# Altium schematic symbol library kmilo17pet-NSC_Amplifier.SchLib: 1665 symbols (part 42 of 44)
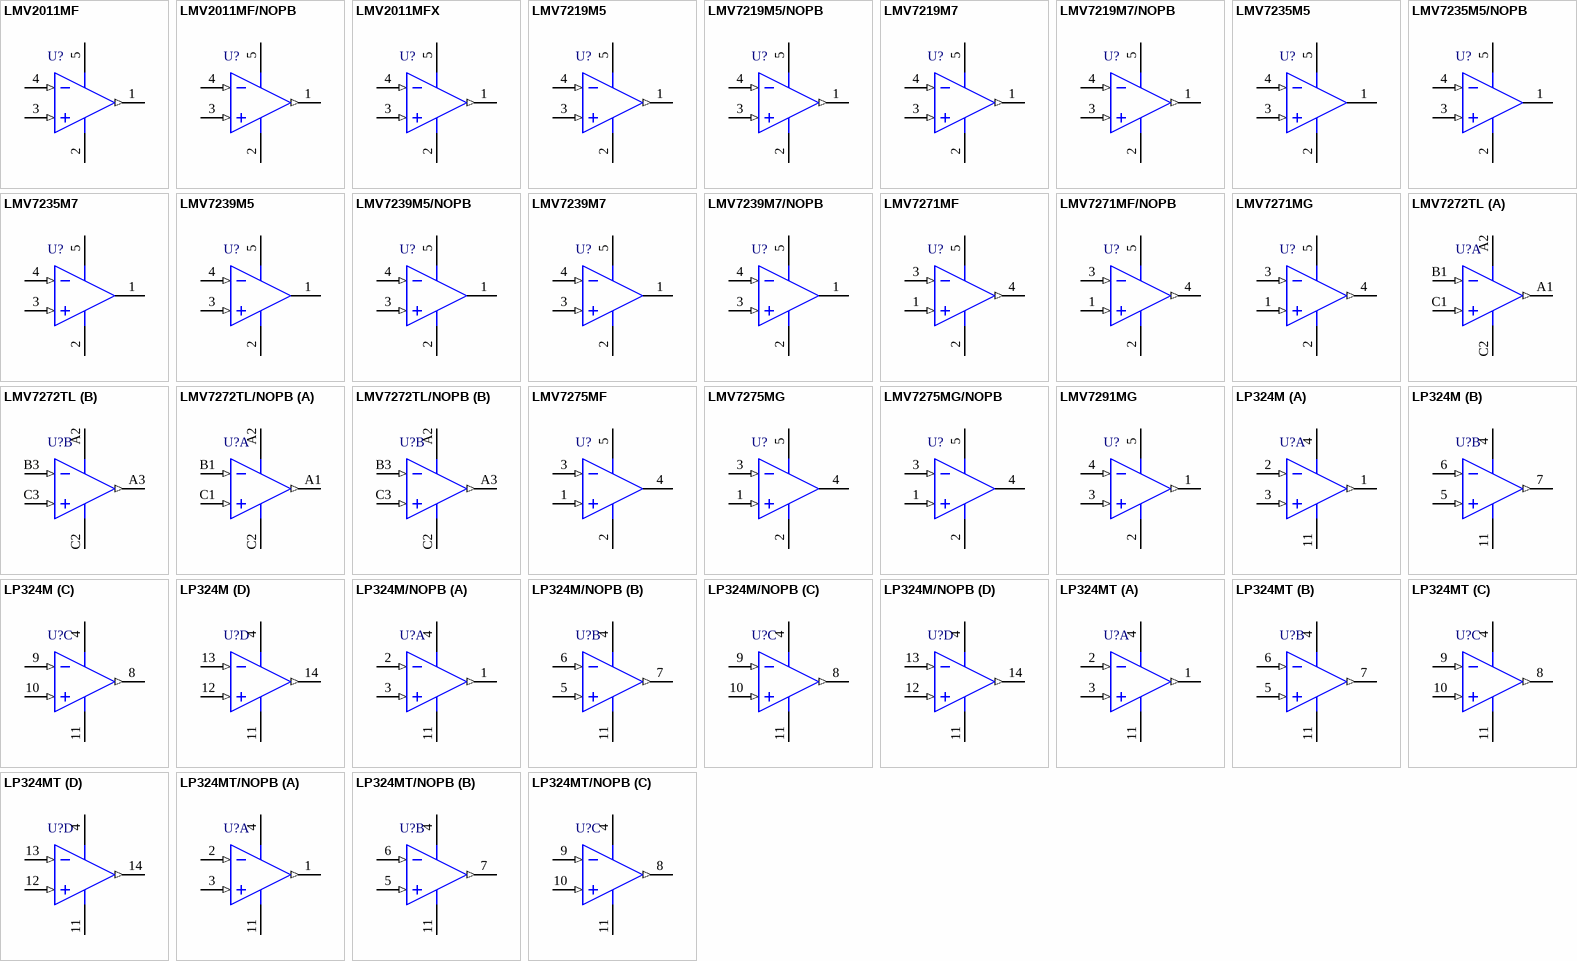
[diagram p125: symbols LMV2011MF to LP324MT/NOPB]

## LMV7272TL
designator U?
Dual 1.8V Low Power Comparators with Rail-to-Rail Input, 8-pin Micro SMD; PartNumber: LMV7272TL; Manufacturer: National Semiconductor; PackageTopMarking: XVC*I 01; PowerWise: Y; CompType: Amplifiers; DatasheetVersion: May-2008; PackageVersion: revC, Jan-2004; PackageReference: TLA08AAA; PackageDescription: Thin Micro SMD, 8 Bump (Large), 0.5mm Pitch; RoHS: N; PinCount: 8; High-Reliability: Y; ComponentLink1Description: Manufacturer URL; ComponentLink1URL: http://www.national.com/; ComponentLink2Description: LMV7272 Datasheet; ComponentLink2URL: http://www.national.com/ds/LM/LMV7272.pdf; ComponentLink3Description: LMV7272 Web Page; ComponentLink3URL: http://www.national.com/pf/LM/LMV7272.html; ComponentLink4Description: TLA08AAA Package Page; ComponentLink4URL: http://www.national.com/packaging/folders/tla08aaa.html
footprint TLA08AAA (Micro SMD, 8-Leads, Body 1.52x1.52mm, Pitch 0.5mm, NSC Recommended)
pins on every part: A2 V+ (power), C2 V- (power)
part A pins: A1 OUTA (out), B1 INA- (in), C1 INA+ (in)
part B pins: A3 OUTB (out), B3 INB- (in), C3 INB+ (in)

## LMV7272TL/NOPB
designator U?
Dual 1.8V Low Power Comparators with Rail-to-Rail Input, 8-pin Micro SMD, Pb-Free; PartNumber: LMV7272TL/NOPB; Manufacturer: National Semiconductor; PackageTopMarking: XVC*I 01; PowerWise: Y; CompType: Amplifiers; DatasheetVersion: May-2008; PackageVersion: revC, Jan-2004; PackageReference: TLA08AAA; PackageDescription: Thin Micro SMD, 8 Bump (Large), 0.5mm Pitch; RoHS: Y; PinCount: 8; High-Reliability: Y; ComponentLink1Description: Manufacturer URL; ComponentLink1URL: http://www.national.com/; ComponentLink2Description: LMV7272 Datasheet; ComponentLink2URL: http://www.national.com/ds/LM/LMV7272.pdf; ComponentLink3Description: LMV7272 Web Page; ComponentLink3URL: http://www.national.com/pf/LM/LMV7272.html; ComponentLink4Description: TLA08AAA Package Page; ComponentLink4URL: http://www.national.com/packaging/folders/tla08aaa.html
footprint TLA08AAA (Micro SMD, 8-Leads, Body 1.52x1.52mm, Pitch 0.5mm, NSC Recommended)
pins on every part: A2 V+ (power), C2 V- (power)
part A pins: A1 OUTA (out), B1 INA- (in), C1 INA+ (in)
part B pins: A3 OUTB (out), B3 INB- (in), C3 INB+ (in)

## LMV7275MF
designator U?
Single 1.8V Low Power Comparators with Rail-to-Rail Input, 5-pin SOT-23; PartNumber: LMV7275MF; Manufacturer: National Semiconductor; PackageTopMarking: C26A*XTT; PowerWise: Y; CompType: Amplifiers; DatasheetVersion: May-2008; PackageVersion: revD, Aug-2008; PackageReference: MF05A; PackageDescription: Molded SOT-23, .115 x .063 x .040 in Body, 5 Lead, .0375 in Pitch; RoHS: N; PinCount: 5; High-Reliability: Y; ComponentLink1Description: Manufacturer URL; ComponentLink1URL: http://www.national.com/; ComponentLink2Description: LMV7275 Datasheet; ComponentLink2URL: http://www.national.com/ds/LM/LMV7275.pdf; ComponentLink3Description: LMV7275 Web Page; ComponentLink3URL: http://www.national.com/pf/LM/LMV7275.html; ComponentLink4Description: MF05A Package Page; ComponentLink4URL: http://www.national.com/packaging/folders/mf05a.html
footprint MF05A_N (SOT23, 5-Leads, Body 2.9x1.6mm, Pitch 0.95mm, Lead Span 2.8mm, IPC Medium Density)
footprint MF05A_L (SOT23, 5-Leads, Body 2.9x1.6mm, Pitch 0.95mm, Lead Span 2.8mm, IPC High Density)
footprint MF05A_M (SOT23, 5-Leads, Body 2.9x1.6mm, Pitch 0.95mm, Lead Span 2.8mm, IPC Low Density)
pins: 1 IN+ (in), 2 GND (power), 3 IN- (in), 4 OUT (oc), 5 V+ (power)

## LMV7275MG
designator U?
Single 1.8V Low Power Comparators with Rail-to-Rail Input, 5-pin SC-70; PartNumber: LMV7275MG; Manufacturer: National Semiconductor; PackageTopMarking: C35*XTT; PowerWise: Y; CompType: Amplifiers; DatasheetVersion: May-2008; PackageVersion: revD, Jun-2007; PackageReference: MAA05A; PackageDescription: Molded SC-70, 2 x 1.25 x .9mm, 5 Lead, 0.65mm Pitch; RoHS: N; PinCount: 5; High-Reliability: Y; Code_JEITA: SC-88A; Code_JEDEC: MO-203-AA; Code_IPC: SOT353-5; ComponentLink1Description: Manufacturer URL; ComponentLink1URL: http://www.national.com/; ComponentLink2Description: LMV7275 Datasheet; ComponentLink2URL: http://www.national.com/ds/LM/LMV7275.pdf; ComponentLink3Description: LMV7275 Web Page; ComponentLink3URL: http://www.national.com/pf/LM/LMV7275.html; ComponentLink4Description: MAA05A Package Page; ComponentLink4URL: http://www.national.com/packaging/folders/maa05a.html
footprint MAA05A_N (SOT353, 5-Leads, Body 2x1.3mm, Pitch 0.65mm, Lead Span 2.1mm, IPC Medium Density)
footprint MAA05A_L (SOT353, 5-Leads, Body 2x1.3mm, Pitch 0.65mm, Lead Span 2.1mm, IPC High Density)
footprint MAA05A_M (SOT353, 5-Leads, Body 2x1.3mm, Pitch 0.65mm, Lead Span 2.1mm, IPC Low Density)
pins: 1 IN+ (in), 2 GND (power), 3 IN- (in), 4 OUT (oc), 5 V+ (power)

## LMV7275MG/NOPB
designator U?
Single 1.8V Low Power Comparators with Rail-to-Rail Input, 5-pin SC-70, Pb-Free; PartNumber: LMV7275MG/NOPB; Manufacturer: National Semiconductor; PackageTopMarking: C35*XTT; PowerWise: Y; CompType: Amplifiers; DatasheetVersion: May-2008; PackageVersion: revD, Jun-2007; PackageReference: MAA05A; PackageDescription: Molded SC-70, 2 x 1.25 x .9mm, 5 Lead, 0.65mm Pitch; RoHS: Y; PinCount: 5; High-Reliability: Y; Code_JEITA: SC-88A; Code_JEDEC: MO-203-AA; Code_IPC: SOT353-5; ComponentLink1Description: Manufacturer URL; ComponentLink1URL: http://www.national.com/; ComponentLink2Description: LMV7275 Datasheet; ComponentLink2URL: http://www.national.com/ds/LM/LMV7275.pdf; ComponentLink3Description: LMV7275 Web Page; ComponentLink3URL: http://www.national.com/pf/LM/LMV7275.html; ComponentLink4Description: MAA05A Package Page; ComponentLink4URL: http://www.national.com/packaging/folders/maa05a.html
footprint MAA05A_N (SOT353, 5-Leads, Body 2x1.3mm, Pitch 0.65mm, Lead Span 2.1mm, IPC Medium Density)
footprint MAA05A_L (SOT353, 5-Leads, Body 2x1.3mm, Pitch 0.65mm, Lead Span 2.1mm, IPC High Density)
footprint MAA05A_M (SOT353, 5-Leads, Body 2x1.3mm, Pitch 0.65mm, Lead Span 2.1mm, IPC Low Density)
pins: 1 IN+ (in), 2 GND (power), 3 IN- (in), 4 OUT (oc), 5 V+ (power)

## LMV7291MG
designator U?
Single 1.8V Power Comparator with Rail-to-Rail Input, 5-pin SC-70; PartNumber: LMV7291MG; Manufacturer: National Semiconductor; PackageTopMarking: C36*XTT; PowerWise: Y; CompType: Amplifiers; DatasheetVersion: Mar-2004; PackageVersion: revD, Jun-2007; PackageReference: MAA05A; PackageDescription: Molded SC-70, 2 x 1.25 x .9mm, 5 Lead, 0.65mm Pitch; RoHS: N; PinCount: 5; High-Reliability: Y; Code_JEITA: SC-88A; Code_JEDEC: MO-203-AA; Code_IPC: SOT353-5; ComponentLink1Description: Manufacturer URL; ComponentLink1URL: http://www.national.com/; ComponentLink2Description: LMV7291 Datasheet; ComponentLink2URL: http://www.national.com/ds/LM/LMV7291.pdf; ComponentLink3Description: LMV7291 Web Page; ComponentLink3URL: http://www.national.com/pf/LM/LMV7291.html; ComponentLink4Description: MAA05A Package Page; ComponentLink4URL: http://www.national.com/packaging/folders/maa05a.html
footprint MAA05A_N (SOT353, 5-Leads, Body 2x1.3mm, Pitch 0.65mm, Lead Span 2.1mm, IPC Medium Density)
footprint MAA05A_L (SOT353, 5-Leads, Body 2x1.3mm, Pitch 0.65mm, Lead Span 2.1mm, IPC High Density)
footprint MAA05A_M (SOT353, 5-Leads, Body 2x1.3mm, Pitch 0.65mm, Lead Span 2.1mm, IPC Low Density)
pins: 1 OUT (out), 2 GND (power), 3 IN+ (in), 4 IN- (in), 5 V+ (power)

## LP324M
designator U?
Micropower Quad Operational Amplifier, 14-pin Narrow SOIC; PartNumber: LP324M; Manufacturer: National Semiconductor; PackageTopMarking: NSUZXYTTE#*LP324M; PowerWise: N; CompType: Amplifiers; High-Reliability: Y; DatasheetVersion: Jul-2001; PackageVersion: revJ, Jan-1996; PackageReference: M14A; PackageDescription: Molded Package S.O., .150in Wide, 14 Lead; RoHS: N; PinCount: 14; Code_JEDEC: MS-012AB; Code_IPC: SOIC127P600-14; ComponentLink1Description: Manufacturer URL; ComponentLink1URL: http://www.national.com/; ComponentLink2Description: LP324 Datasheet; ComponentLink2URL: http://www.national.com/ds/LP/LP324.pdf; ComponentLink3Description: LP324 Web Page; ComponentLink3URL: http://www.national.com/pf/LP/LP324.html; ComponentLink4Description: M14A Package Page; ComponentLink4URL: http://www.national.com/packaging/folders/m14a.html
footprint M14A_N (SOIC, 14-Leads, Body 8.6x3.9mm, Pitch 1.27mm, IPC Medium Density)
footprint M14A_L (SOIC, 14-Leads, Body 8.6x3.9mm, Pitch 1.27mm, IPC High Density)
footprint M14A_M (SOIC, 14-Leads, Body 8.6x3.9mm, Pitch 1.27mm, IPC Low Density)
pins on every part: 4 V+ (power), 11 GND (power)
part A pins: 1 OUT1 (out), 2 IN1- (in), 3 IN1+ (in)
part B pins: 5 IN2+ (in), 6 IN2- (in), 7 OUT2 (out)
part C pins: 8 OUT3 (out), 9 IN3- (in), 10 IN3+ (in)
part D pins: 12 IN4+ (in), 13 IN4- (in), 14 OUT4 (out)

## LP324M/NOPB
designator U?
Micropower Quad Operational Amplifier, 14-pin Narrow SOIC, Pb-Free; PartNumber: LP324M/NOPB; Manufacturer: National Semiconductor; PackageTopMarking: NSUZXYTTE#*LP324M; PowerWise: N; CompType: Amplifiers; High-Reliability: Y; DatasheetVersion: Jul-2001; PackageVersion: revJ, Jan-1996; PackageReference: M14A; PackageDescription: Molded Package S.O., .150in Wide, 14 Lead; RoHS: Y; PinCount: 14; Code_JEDEC: MS-012AB; Code_IPC: SOIC127P600-14; ComponentLink1Description: Manufacturer URL; ComponentLink1URL: http://www.national.com/; ComponentLink2Description: LP324 Datasheet; ComponentLink2URL: http://www.national.com/ds/LP/LP324.pdf; ComponentLink3Description: LP324 Web Page; ComponentLink3URL: http://www.national.com/pf/LP/LP324.html; ComponentLink4Description: M14A Package Page; ComponentLink4URL: http://www.national.com/packaging/folders/m14a.html
footprint M14A_N (SOIC, 14-Leads, Body 8.6x3.9mm, Pitch 1.27mm, IPC Medium Density)
footprint M14A_L (SOIC, 14-Leads, Body 8.6x3.9mm, Pitch 1.27mm, IPC High Density)
footprint M14A_M (SOIC, 14-Leads, Body 8.6x3.9mm, Pitch 1.27mm, IPC Low Density)
pins on every part: 4 V+ (power), 11 GND (power)
part A pins: 1 OUT1 (out), 2 IN1- (in), 3 IN1+ (in)
part B pins: 5 IN2+ (in), 6 IN2- (in), 7 OUT2 (out)
part C pins: 8 OUT3 (out), 9 IN3- (in), 10 IN3+ (in)
part D pins: 12 IN4+ (in), 13 IN4- (in), 14 OUT4 (out)

## LP324MT
designator U?
Micropower Quad Operational Amplifier, 14-pin TSSOP; PartNumber: LP324MT; Manufacturer: National Semiconductor; PackageTopMarking: NSZXYTT*LP324*MT; PowerWise: N; CompType: Amplifiers; High-Reliability: Y; DatasheetVersion: Jul-2001; PackageVersion: revD, Jun-2003; PackageReference: MTC14; PackageDescription: Molded TSSOP, JEDEC, 5 x 4.4 x 0.9mm Body, 14 Lead, 0.65mm Pitch; RoHS: N; PinCount: 14; Code_JEDEC: MO-153-AB-1; ComponentLink1Description: Manufacturer URL; ComponentLink1URL: http://www.national.com/; ComponentLink2Description: LP324 Datasheet; ComponentLink2URL: http://www.national.com/ds/LP/LP324.pdf; ComponentLink3Description: LP324 Web Page; ComponentLink3URL: http://www.national.com/pf/LP/LP324.html; ComponentLink4Description: MTC14 Package Page; ComponentLink4URL: http://www.national.com/packaging/folders/mtc14.html
footprint MTC14_N (TSOP, 14-Leads, Body 5x4.4mm, Pitch 0.65mm, IPC Medium Density)
footprint MTC14_L (TSOP, 14-Leads, Body 5x4.4mm, Pitch 0.65mm, IPC High Density)
footprint MTC14_M (TSOP, 14-Leads, Body 5x4.4mm, Pitch 0.65mm, IPC Low Density)
pins on every part: 4 V+ (power), 11 GND (power)
part A pins: 1 OUT1 (out), 2 IN1- (in), 3 IN1+ (in)
part B pins: 5 IN2+ (in), 6 IN2- (in), 7 OUT2 (out)
part C pins: 8 OUT3 (out), 9 IN3- (in), 10 IN3+ (in)
part D pins: 12 IN4+ (in), 13 IN4- (in), 14 OUT4 (out)

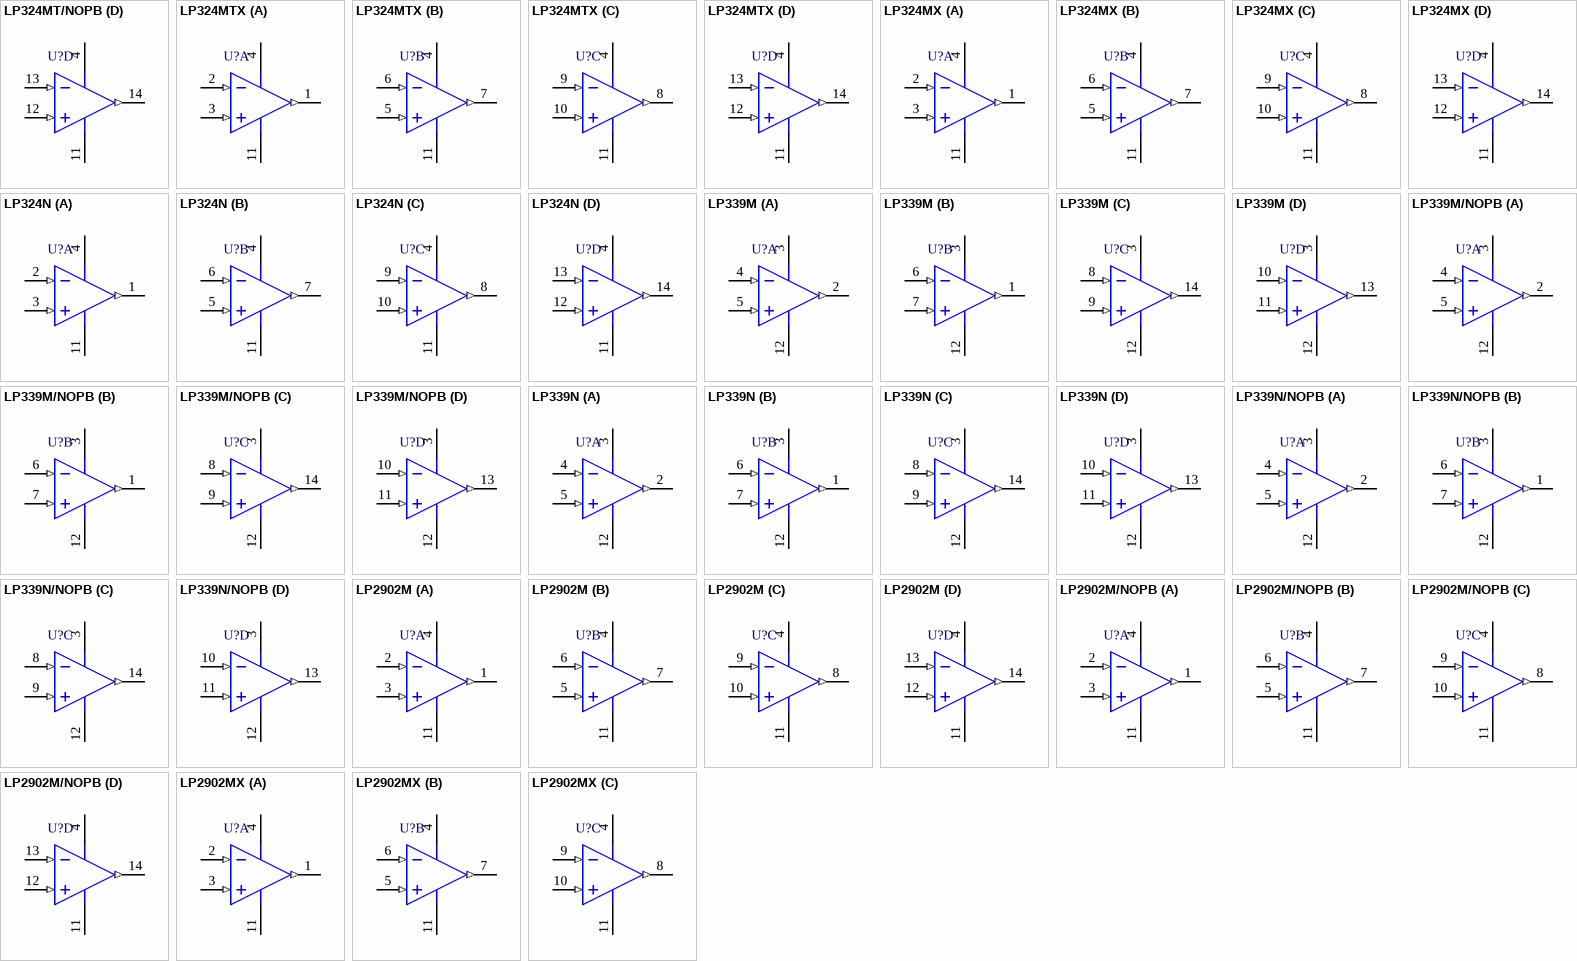
[diagram p80: symbols LP324MT/NOPB to LP2902MX]

## LP324MT/NOPB
designator U?
Micropower Quad Operational Amplifier, 14-pin TSSOP, Pb-Free; PartNumber: LP324MT/NOPB; Manufacturer: National Semiconductor; PackageTopMarking: NSZXYTT*LP324*MT; PowerWise: N; CompType: Amplifiers; High-Reliability: Y; DatasheetVersion: Jul-2001; PackageVersion: revD, Jun-2003; PackageReference: MTC14; PackageDescription: Molded TSSOP, JEDEC, 5 x 4.4 x 0.9mm Body, 14 Lead, 0.65mm Pitch; RoHS: Y; PinCount: 14; Code_JEDEC: MO-153-AB-1; ComponentLink1Description: Manufacturer URL; ComponentLink1URL: http://www.national.com/; ComponentLink2Description: LP324 Datasheet; ComponentLink2URL: http://www.national.com/ds/LP/LP324.pdf; ComponentLink3Description: LP324 Web Page; ComponentLink3URL: http://www.national.com/pf/LP/LP324.html; ComponentLink4Description: MTC14 Package Page; ComponentLink4URL: http://www.national.com/packaging/folders/mtc14.html
footprint MTC14_N (TSOP, 14-Leads, Body 5x4.4mm, Pitch 0.65mm, IPC Medium Density)
footprint MTC14_L (TSOP, 14-Leads, Body 5x4.4mm, Pitch 0.65mm, IPC High Density)
footprint MTC14_M (TSOP, 14-Leads, Body 5x4.4mm, Pitch 0.65mm, IPC Low Density)
pins on every part: 4 V+ (power), 11 GND (power)
part A pins: 1 OUT1 (out), 2 IN1- (in), 3 IN1+ (in)
part B pins: 5 IN2+ (in), 6 IN2- (in), 7 OUT2 (out)
part C pins: 8 OUT3 (out), 9 IN3- (in), 10 IN3+ (in)
part D pins: 12 IN4+ (in), 13 IN4- (in), 14 OUT4 (out)

## LP324MTX
designator U?
Micropower Quad Operational Amplifier, 14-pin TSSOP; PartNumber: LP324MTX; Manufacturer: National Semiconductor; PackageTopMarking: NSZXYTT*LP324*MT; PowerWise: N; CompType: Amplifiers; High-Reliability: Y; DatasheetVersion: Jul-2001; PackageVersion: revD, Jun-2003; PackageReference: MTC14; PackageDescription: Molded TSSOP, JEDEC, 5 x 4.4 x 0.9mm Body, 14 Lead, 0.65mm Pitch; RoHS: N; PinCount: 14; Code_JEDEC: MO-153-AB-1; ComponentLink1Description: Manufacturer URL; ComponentLink1URL: http://www.national.com/; ComponentLink2Description: LP324 Datasheet; ComponentLink2URL: http://www.national.com/ds/LP/LP324.pdf; ComponentLink3Description: LP324 Web Page; ComponentLink3URL: http://www.national.com/pf/LP/LP324.html; ComponentLink4Description: MTC14 Package Page; ComponentLink4URL: http://www.national.com/packaging/folders/mtc14.html
footprint MTC14_N (TSOP, 14-Leads, Body 5x4.4mm, Pitch 0.65mm, IPC Medium Density)
footprint MTC14_L (TSOP, 14-Leads, Body 5x4.4mm, Pitch 0.65mm, IPC High Density)
footprint MTC14_M (TSOP, 14-Leads, Body 5x4.4mm, Pitch 0.65mm, IPC Low Density)
pins on every part: 4 V+ (power), 11 GND (power)
part A pins: 1 OUT1 (out), 2 IN1- (in), 3 IN1+ (in)
part B pins: 5 IN2+ (in), 6 IN2- (in), 7 OUT2 (out)
part C pins: 8 OUT3 (out), 9 IN3- (in), 10 IN3+ (in)
part D pins: 12 IN4+ (in), 13 IN4- (in), 14 OUT4 (out)

## LP324MX
designator U?
Micropower Quad Operational Amplifier, 14-pin Narrow SOIC; PartNumber: LP324MX; Manufacturer: National Semiconductor; PackageTopMarking: NSUZXYTTE#*LP324M; PowerWise: N; CompType: Amplifiers; High-Reliability: Y; DatasheetVersion: Jul-2001; PackageVersion: revJ, Jan-1996; PackageReference: M14A; PackageDescription: Molded Package S.O., .150in Wide, 14 Lead; RoHS: N; PinCount: 14; Code_JEDEC: MS-012AB; Code_IPC: SOIC127P600-14; ComponentLink1Description: Manufacturer URL; ComponentLink1URL: http://www.national.com/; ComponentLink2Description: LP324 Datasheet; ComponentLink2URL: http://www.national.com/ds/LP/LP324.pdf; ComponentLink3Description: LP324 Web Page; ComponentLink3URL: http://www.national.com/pf/LP/LP324.html; ComponentLink4Description: M14A Package Page; ComponentLink4URL: http://www.national.com/packaging/folders/m14a.html
footprint M14A_N (SOIC, 14-Leads, Body 8.6x3.9mm, Pitch 1.27mm, IPC Medium Density)
footprint M14A_L (SOIC, 14-Leads, Body 8.6x3.9mm, Pitch 1.27mm, IPC High Density)
footprint M14A_M (SOIC, 14-Leads, Body 8.6x3.9mm, Pitch 1.27mm, IPC Low Density)
pins on every part: 4 V+ (power), 11 GND (power)
part A pins: 1 OUT1 (out), 2 IN1- (in), 3 IN1+ (in)
part B pins: 5 IN2+ (in), 6 IN2- (in), 7 OUT2 (out)
part C pins: 8 OUT3 (out), 9 IN3- (in), 10 IN3+ (in)
part D pins: 12 IN4+ (in), 13 IN4- (in), 14 OUT4 (out)

## LP324N
designator U?
Micropower Quad Operational Amplifier, 14-pin MDIP; PartNumber: LP324N; Manufacturer: National Semiconductor; PackageTopMarking: NSUZXYYTTE#*LP324N; PowerWise: N; CompType: Amplifiers; High-Reliability: Y; DatasheetVersion: Jul-2001; PackageVersion: revG, May-2006; PackageReference: N14A; PackageDescription: MDIP, .750 x .250 x.130in, 14 Lead, .100in Pitch; RoHS: N; PinCount: 14; Code_JEDEC: MS-001-AA; ComponentLink1Description: Manufacturer URL; ComponentLink1URL: http://www.national.com/; ComponentLink2Description: LP324 Datasheet; ComponentLink2URL: http://www.national.com/ds/LP/LP324.pdf; ComponentLink3Description: LP324 Web Page; ComponentLink3URL: http://www.national.com/pf/LP/LP324.html; ComponentLink4Description: N14A Package Page; ComponentLink4URL: http://www.national.com/packaging/folders/n14a.html
footprint N14A (DIP, 14-Leads, Row Spacing 7.62mm, Pitch 2.54mm, Body 19.56x6.35mm)
pins on every part: 4 V+ (power), 11 GND (power)
part A pins: 1 OUT1 (out), 2 IN1- (in), 3 IN1+ (in)
part B pins: 5 IN2+ (in), 6 IN2- (in), 7 OUT2 (out)
part C pins: 8 OUT3 (out), 9 IN3- (in), 10 IN3+ (in)
part D pins: 12 IN4+ (in), 13 IN4- (in), 14 OUT4 (out)

## LP339M
designator U?
Ultra-Low Power Quad Comparator, 14-pin Narrow SOIC; PartNumber: LP339M; Manufacturer: National Semiconductor; PackageTopMarking: NSUZXYTTE#*LP339M; PowerWise: N; CompType: Amplifiers; High-Reliability: Y; DatasheetVersion: Aug-2000; PackageVersion: revJ, Jan-1996; PackageReference: M14A; PackageDescription: Molded Package S.O., .150in Wide, 14 Lead; RoHS: N; PinCount: 14; Code_JEDEC: MS-012AB; Code_IPC: SOIC127P600-14; ComponentLink1Description: Manufacturer URL; ComponentLink1URL: http://www.national.com/; ComponentLink2Description: LP339 Datasheet; ComponentLink2URL: http://www.national.com/ds/LP/LP339.pdf; ComponentLink3Description: LP339 Web Page; ComponentLink3URL: http://www.national.com/pf/LP/LP339.html; ComponentLink4Description: M14A Package Page; ComponentLink4URL: http://www.national.com/packaging/folders/m14a.html
footprint M14A_N (SOIC, 14-Leads, Body 8.6x3.9mm, Pitch 1.27mm, IPC Medium Density)
footprint M14A_L (SOIC, 14-Leads, Body 8.6x3.9mm, Pitch 1.27mm, IPC High Density)
footprint M14A_M (SOIC, 14-Leads, Body 8.6x3.9mm, Pitch 1.27mm, IPC Low Density)
pins on every part: 3 V+ (power), 12 GND (power)
part A pins: 2 OUT1 (out), 4 IN1- (in), 5 IN1+ (in)
part B pins: 1 OUT2 (out), 6 IN2- (in), 7 IN2+ (in)
part C pins: 8 IN3- (in), 9 IN3+ (in), 14 OUT3 (out)
part D pins: 10 IN4- (in), 11 IN4+ (in), 13 OUT4 (out)

## LP339M/NOPB
designator U?
Ultra-Low Power Quad Comparator, 14-pin Narrow SOIC, Pb-Free; PartNumber: LP339M/NOPB; Manufacturer: National Semiconductor; PackageTopMarking: NSUZXYTTE#*LP339M; PowerWise: N; CompType: Amplifiers; High-Reliability: Y; DatasheetVersion: Aug-2000; PackageVersion: revJ, Jan-1996; PackageReference: M14A; PackageDescription: Molded Package S.O., .150in Wide, 14 Lead; RoHS: Y; PinCount: 14; Code_JEDEC: MS-012AB; Code_IPC: SOIC127P600-14; ComponentLink1Description: Manufacturer URL; ComponentLink1URL: http://www.national.com/; ComponentLink2Description: LP339 Datasheet; ComponentLink2URL: http://www.national.com/ds/LP/LP339.pdf; ComponentLink3Description: LP339 Web Page; ComponentLink3URL: http://www.national.com/pf/LP/LP339.html; ComponentLink4Description: M14A Package Page; ComponentLink4URL: http://www.national.com/packaging/folders/m14a.html
footprint M14A_N (SOIC, 14-Leads, Body 8.6x3.9mm, Pitch 1.27mm, IPC Medium Density)
footprint M14A_L (SOIC, 14-Leads, Body 8.6x3.9mm, Pitch 1.27mm, IPC High Density)
footprint M14A_M (SOIC, 14-Leads, Body 8.6x3.9mm, Pitch 1.27mm, IPC Low Density)
pins on every part: 3 V+ (power), 12 GND (power)
part A pins: 2 OUT1 (out), 4 IN1- (in), 5 IN1+ (in)
part B pins: 1 OUT2 (out), 6 IN2- (in), 7 IN2+ (in)
part C pins: 8 IN3- (in), 9 IN3+ (in), 14 OUT3 (out)
part D pins: 10 IN4- (in), 11 IN4+ (in), 13 OUT4 (out)

## LP339N
designator U?
Ultra-Low Power Quad Comparator, 14-pin MDIP; PartNumber: LP339N; Manufacturer: National Semiconductor; PackageTopMarking: NSUZXYYTTE#*LP339N; PowerWise: N; CompType: Amplifiers; High-Reliability: Y; DatasheetVersion: Aug-2000; PackageVersion: revG, May-2006; PackageReference: N14A; PackageDescription: MDIP, .750 x .250 x.130in, 14 Lead, .100in Pitch; RoHS: N; PinCount: 14; Code_JEDEC: MS-001-AA; ComponentLink1Description: Manufacturer URL; ComponentLink1URL: http://www.national.com/; ComponentLink2Description: LP339 Datasheet; ComponentLink2URL: http://www.national.com/ds/LP/LP339.pdf; ComponentLink3Description: LP339 Web Page; ComponentLink3URL: http://www.national.com/pf/LP/LP339.html; ComponentLink4Description: N14A Package Page; ComponentLink4URL: http://www.national.com/packaging/folders/n14a.html
footprint N14A (DIP, 14-Leads, Row Spacing 7.62mm, Pitch 2.54mm, Body 19.56x6.35mm)
pins on every part: 3 V+ (power), 12 GND (power)
part A pins: 2 OUT1 (out), 4 IN1- (in), 5 IN1+ (in)
part B pins: 1 OUT2 (out), 6 IN2- (in), 7 IN2+ (in)
part C pins: 8 IN3- (in), 9 IN3+ (in), 14 OUT3 (out)
part D pins: 10 IN4- (in), 11 IN4+ (in), 13 OUT4 (out)

## LP339N/NOPB
designator U?
Ultra-Low Power Quad Comparator, 14-pin MDIP, Pb-Free; PartNumber: LP339N/NOPB; Manufacturer: National Semiconductor; PackageTopMarking: NSUZXYYTTE#*LP339N; PowerWise: N; CompType: Amplifiers; High-Reliability: Y; DatasheetVersion: Aug-2000; PackageVersion: revG, May-2006; PackageReference: N14A; PackageDescription: MDIP, .750 x .250 x.130in, 14 Lead, .100in Pitch; RoHS: Y; PinCount: 14; Code_JEDEC: MS-001-AA; ComponentLink1Description: Manufacturer URL; ComponentLink1URL: http://www.national.com/; ComponentLink2Description: LP339 Datasheet; ComponentLink2URL: http://www.national.com/ds/LP/LP339.pdf; ComponentLink3Description: LP339 Web Page; ComponentLink3URL: http://www.national.com/pf/LP/LP339.html; ComponentLink4Description: N14A Package Page; ComponentLink4URL: http://www.national.com/packaging/folders/n14a.html
footprint N14A (DIP, 14-Leads, Row Spacing 7.62mm, Pitch 2.54mm, Body 19.56x6.35mm)
pins on every part: 3 V+ (power), 12 GND (power)
part A pins: 2 OUT1 (out), 4 IN1- (in), 5 IN1+ (in)
part B pins: 1 OUT2 (out), 6 IN2- (in), 7 IN2+ (in)
part C pins: 8 IN3- (in), 9 IN3+ (in), 14 OUT3 (out)
part D pins: 10 IN4- (in), 11 IN4+ (in), 13 OUT4 (out)

## LP2902M
designator U?
Micropower Quad Operational Amplifier, 14-pin Narrow SOIC; PartNumber: LP2902M; Manufacturer: National Semiconductor; PackageTopMarking: NSUZXYTTE#*LP2902M; PowerWise: N; CompType: Amplifiers; High-Reliability: Y; DatasheetVersion: Jul-2001; PackageVersion: revJ, Jan-1996; PackageReference: M14A; PackageDescription: Molded Package S.O., .150in Wide, 14 Lead; RoHS: N; PinCount: 14; Code_JEDEC: MS-012AB; Code_IPC: SOIC127P600-14; ComponentLink1Description: Manufacturer URL; ComponentLink1URL: http://www.national.com/; ComponentLink2Description: LP2902 Datasheet; ComponentLink2URL: http://www.national.com/ds/LP/LP2902.pdf; ComponentLink3Description: LP2902 Web Page; ComponentLink3URL: http://www.national.com/pf/LP/LP2902.html; ComponentLink4Description: M14A Package Page; ComponentLink4URL: http://www.national.com/packaging/folders/m14a.html
footprint M14A_N (SOIC, 14-Leads, Body 8.6x3.9mm, Pitch 1.27mm, IPC Medium Density)
footprint M14A_L (SOIC, 14-Leads, Body 8.6x3.9mm, Pitch 1.27mm, IPC High Density)
footprint M14A_M (SOIC, 14-Leads, Body 8.6x3.9mm, Pitch 1.27mm, IPC Low Density)
pins on every part: 4 V+ (power), 11 GND (power)
part A pins: 1 OUT1 (out), 2 IN1- (in), 3 IN1+ (in)
part B pins: 5 IN2+ (in), 6 IN2- (in), 7 OUT2 (out)
part C pins: 8 OUT3 (out), 9 IN3- (in), 10 IN3+ (in)
part D pins: 12 IN4+ (in), 13 IN4- (in), 14 OUT4 (out)

## LP2902M/NOPB
designator U?
Micropower Quad Operational Amplifier, 14-pin Narrow SOIC, Pb-Free; PartNumber: LP2902M/NOPB; Manufacturer: National Semiconductor; PackageTopMarking: NSUZXYTTE#*LP2902M; PowerWise: N; CompType: Amplifiers; High-Reliability: Y; DatasheetVersion: Jul-2001; PackageVersion: revJ, Jan-1996; PackageReference: M14A; PackageDescription: Molded Package S.O., .150in Wide, 14 Lead; RoHS: Y; PinCount: 14; Code_JEDEC: MS-012AB; Code_IPC: SOIC127P600-14; ComponentLink1Description: Manufacturer URL; ComponentLink1URL: http://www.national.com/; ComponentLink2Description: LP2902 Datasheet; ComponentLink2URL: http://www.national.com/ds/LP/LP2902.pdf; ComponentLink3Description: LP2902 Web Page; ComponentLink3URL: http://www.national.com/pf/LP/LP2902.html; ComponentLink4Description: M14A Package Page; ComponentLink4URL: http://www.national.com/packaging/folders/m14a.html
footprint M14A_N (SOIC, 14-Leads, Body 8.6x3.9mm, Pitch 1.27mm, IPC Medium Density)
footprint M14A_L (SOIC, 14-Leads, Body 8.6x3.9mm, Pitch 1.27mm, IPC High Density)
footprint M14A_M (SOIC, 14-Leads, Body 8.6x3.9mm, Pitch 1.27mm, IPC Low Density)
pins on every part: 4 V+ (power), 11 GND (power)
part A pins: 1 OUT1 (out), 2 IN1- (in), 3 IN1+ (in)
part B pins: 5 IN2+ (in), 6 IN2- (in), 7 OUT2 (out)
part C pins: 8 OUT3 (out), 9 IN3- (in), 10 IN3+ (in)
part D pins: 12 IN4+ (in), 13 IN4- (in), 14 OUT4 (out)

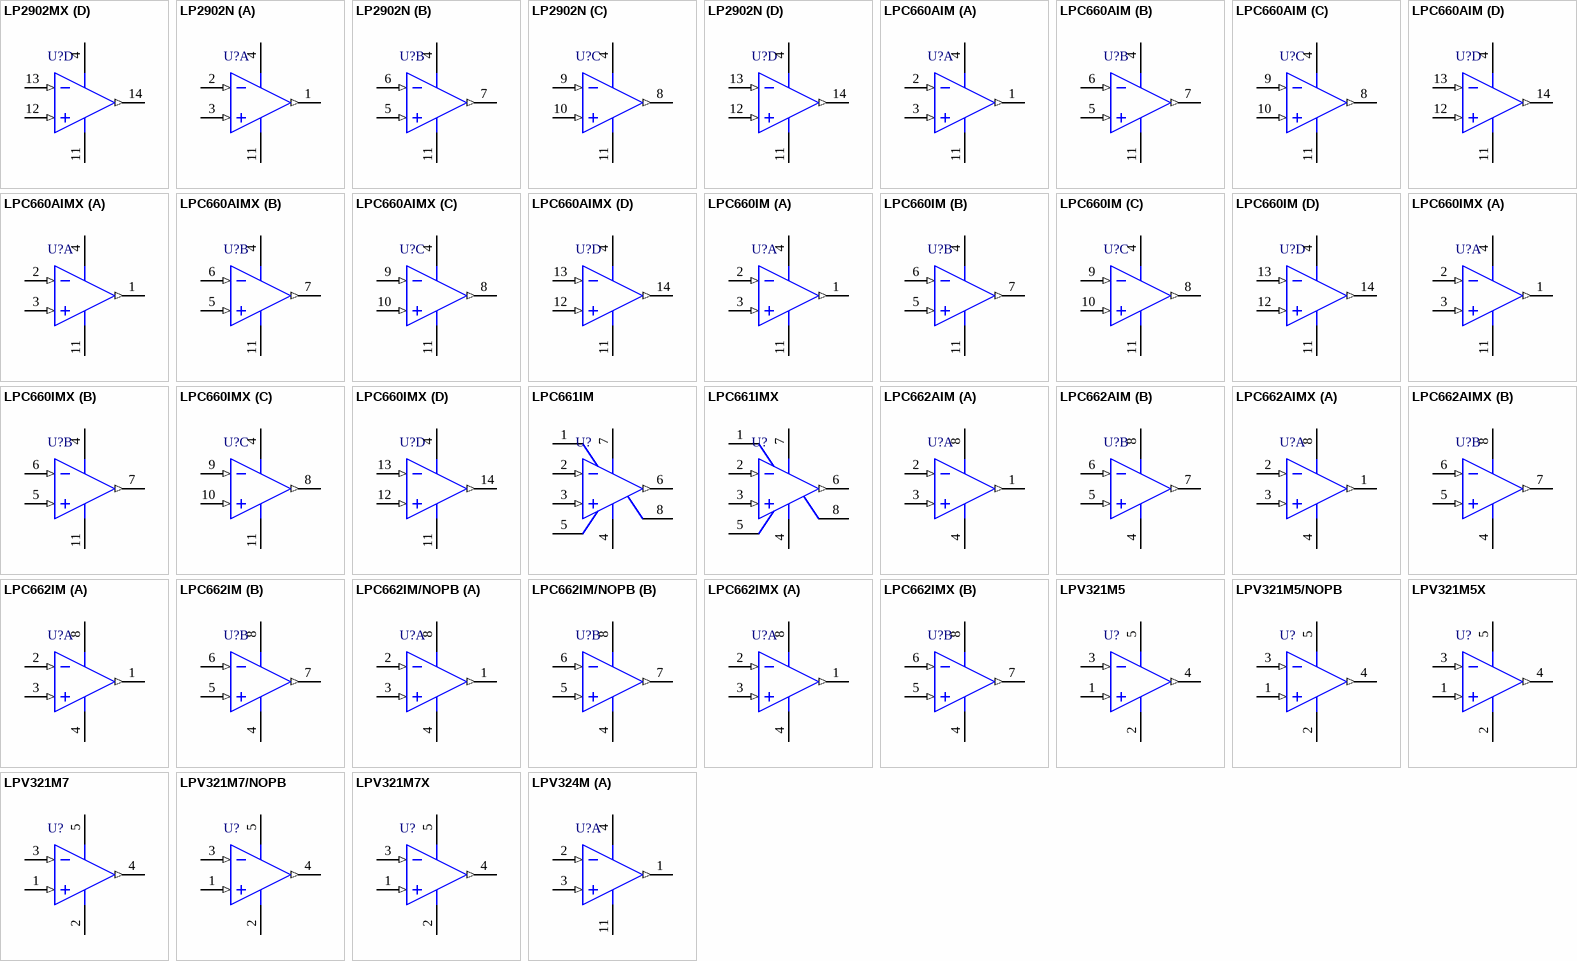
[diagram p81: symbols LP2902MX to LPV324M]

## LP2902MX
designator U?
Micropower Quad Operational Amplifier, 14-pin Narrow SOIC; PartNumber: LP2902MX; Manufacturer: National Semiconductor; PackageTopMarking: NSUZXYTTE#*LP2902M; PowerWise: N; CompType: Amplifiers; High-Reliability: Y; DatasheetVersion: Jul-2001; PackageVersion: revJ, Jan-1996; PackageReference: M14A; PackageDescription: Molded Package S.O., .150in Wide, 14 Lead; RoHS: N; PinCount: 14; Code_JEDEC: MS-012AB; Code_IPC: SOIC127P600-14; ComponentLink1Description: Manufacturer URL; ComponentLink1URL: http://www.national.com/; ComponentLink2Description: LP2902 Datasheet; ComponentLink2URL: http://www.national.com/ds/LP/LP2902.pdf; ComponentLink3Description: LP2902 Web Page; ComponentLink3URL: http://www.national.com/pf/LP/LP2902.html; ComponentLink4Description: M14A Package Page; ComponentLink4URL: http://www.national.com/packaging/folders/m14a.html
footprint M14A_N (SOIC, 14-Leads, Body 8.6x3.9mm, Pitch 1.27mm, IPC Medium Density)
footprint M14A_L (SOIC, 14-Leads, Body 8.6x3.9mm, Pitch 1.27mm, IPC High Density)
footprint M14A_M (SOIC, 14-Leads, Body 8.6x3.9mm, Pitch 1.27mm, IPC Low Density)
pins on every part: 4 V+ (power), 11 GND (power)
part A pins: 1 OUT1 (out), 2 IN1- (in), 3 IN1+ (in)
part B pins: 5 IN2+ (in), 6 IN2- (in), 7 OUT2 (out)
part C pins: 8 OUT3 (out), 9 IN3- (in), 10 IN3+ (in)
part D pins: 12 IN4+ (in), 13 IN4- (in), 14 OUT4 (out)

## LP2902N
designator U?
Micropower Quad Operational Amplifier, 14-pin MDIP; PartNumber: LP2902N; Manufacturer: National Semiconductor; PackageTopMarking: NSUZXYYTTE#*LP2902N; PowerWise: N; CompType: Amplifiers; High-Reliability: Y; DatasheetVersion: Jul-2001; PackageVersion: revG, May-2006; PackageReference: N14A; PackageDescription: MDIP, .750 x .250 x.130in, 14 Lead, .100in Pitch; RoHS: N; PinCount: 14; Code_JEDEC: MS-001-AA; ComponentLink1Description: Manufacturer URL; ComponentLink1URL: http://www.national.com/; ComponentLink2Description: LP2902 Datasheet; ComponentLink2URL: http://www.national.com/ds/LP/LP2902.pdf; ComponentLink3Description: LP2902 Web Page; ComponentLink3URL: http://www.national.com/pf/LP/LP2902.html; ComponentLink4Description: N14A Package Page; ComponentLink4URL: http://www.national.com/packaging/folders/n14a.html
footprint N14A (DIP, 14-Leads, Row Spacing 7.62mm, Pitch 2.54mm, Body 19.56x6.35mm)
pins on every part: 4 V+ (power), 11 GND (power)
part A pins: 1 OUT1 (out), 2 IN1- (in), 3 IN1+ (in)
part B pins: 5 IN2+ (in), 6 IN2- (in), 7 OUT2 (out)
part C pins: 8 OUT3 (out), 9 IN3- (in), 10 IN3+ (in)
part D pins: 12 IN4+ (in), 13 IN4- (in), 14 OUT4 (out)

## LPC660AIM
designator U?
Low Power CMOS Quad Operational Amplifier, 14-pin Narrow SOIC; PartNumber: LPC660AIM; Manufacturer: National Semiconductor; PackageTopMarking: NSUZXYTTE#*LPC660AIM; PowerWise: N; CompType: Amplifiers; High-Reliability: Y; DatasheetVersion: Nov-2004; PackageVersion: revJ, Jan-1996; PackageReference: M14A; PackageDescription: Molded Package S.O., .150in Wide, 14 Lead; RoHS: N; PinCount: 14; Code_JEDEC: MS-012AB; Code_IPC: SOIC127P600-14; ComponentLink1Description: Manufacturer URL; ComponentLink1URL: http://www.national.com/; ComponentLink2Description: LPC660 Datasheet; ComponentLink2URL: http://www.national.com/ds/LP/LPC660.pdf; ComponentLink3Description: LPC660 Web Page; ComponentLink3URL: http://www.national.com/pf/LP/LPC660.html; ComponentLink4Description: M14A Package Page; ComponentLink4URL: http://www.national.com/packaging/folders/m14a.html
footprint M14A_N (SOIC, 14-Leads, Body 8.6x3.9mm, Pitch 1.27mm, IPC Medium Density)
footprint M14A_L (SOIC, 14-Leads, Body 8.6x3.9mm, Pitch 1.27mm, IPC High Density)
footprint M14A_M (SOIC, 14-Leads, Body 8.6x3.9mm, Pitch 1.27mm, IPC Low Density)
pins on every part: 4 V+ (power), 11 V- (power)
part A pins: 1 OUT1 (out), 2 IN1- (in), 3 IN1+ (in)
part B pins: 5 IN2+ (in), 6 IN2- (in), 7 OUT2 (out)
part C pins: 8 OUT3 (out), 9 IN3- (in), 10 IN3+ (in)
part D pins: 12 IN4+ (in), 13 IN4- (in), 14 OUT4 (out)

## LPC660AIMX
designator U?
Low Power CMOS Quad Operational Amplifier, 14-pin Narrow SOIC; PartNumber: LPC660AIMX; Manufacturer: National Semiconductor; PackageTopMarking: NSUZXYTTE#*LPC660AIM; PowerWise: N; CompType: Amplifiers; High-Reliability: Y; DatasheetVersion: Nov-2004; PackageVersion: revJ, Jan-1996; PackageReference: M14A; PackageDescription: Molded Package S.O., .150in Wide, 14 Lead; RoHS: N; PinCount: 14; Code_JEDEC: MS-012AB; Code_IPC: SOIC127P600-14; ComponentLink1Description: Manufacturer URL; ComponentLink1URL: http://www.national.com/; ComponentLink2Description: LPC660 Datasheet; ComponentLink2URL: http://www.national.com/ds/LP/LPC660.pdf; ComponentLink3Description: LPC660 Web Page; ComponentLink3URL: http://www.national.com/pf/LP/LPC660.html; ComponentLink4Description: M14A Package Page; ComponentLink4URL: http://www.national.com/packaging/folders/m14a.html
footprint M14A_N (SOIC, 14-Leads, Body 8.6x3.9mm, Pitch 1.27mm, IPC Medium Density)
footprint M14A_L (SOIC, 14-Leads, Body 8.6x3.9mm, Pitch 1.27mm, IPC High Density)
footprint M14A_M (SOIC, 14-Leads, Body 8.6x3.9mm, Pitch 1.27mm, IPC Low Density)
pins on every part: 4 V+ (power), 11 V- (power)
part A pins: 1 OUT1 (out), 2 IN1- (in), 3 IN1+ (in)
part B pins: 5 IN2+ (in), 6 IN2- (in), 7 OUT2 (out)
part C pins: 8 OUT3 (out), 9 IN3- (in), 10 IN3+ (in)
part D pins: 12 IN4+ (in), 13 IN4- (in), 14 OUT4 (out)

## LPC660IM
designator U?
Low Power CMOS Quad Operational Amplifier, 14-pin Narrow SOIC; PartNumber: LPC660IM; Manufacturer: National Semiconductor; PackageTopMarking: NSUZXYTTE#*LPC660IM; PowerWise: N; CompType: Amplifiers; High-Reliability: Y; DatasheetVersion: Nov-2004; PackageVersion: revJ, Jan-1996; PackageReference: M14A; PackageDescription: Molded Package S.O., .150in Wide, 14 Lead; RoHS: N; PinCount: 14; Code_JEDEC: MS-012AB; Code_IPC: SOIC127P600-14; ComponentLink1Description: Manufacturer URL; ComponentLink1URL: http://www.national.com/; ComponentLink2Description: LPC660 Datasheet; ComponentLink2URL: http://www.national.com/ds/LP/LPC660.pdf; ComponentLink3Description: LPC660 Web Page; ComponentLink3URL: http://www.national.com/pf/LP/LPC660.html; ComponentLink4Description: M14A Package Page; ComponentLink4URL: http://www.national.com/packaging/folders/m14a.html
footprint M14A_N (SOIC, 14-Leads, Body 8.6x3.9mm, Pitch 1.27mm, IPC Medium Density)
footprint M14A_L (SOIC, 14-Leads, Body 8.6x3.9mm, Pitch 1.27mm, IPC High Density)
footprint M14A_M (SOIC, 14-Leads, Body 8.6x3.9mm, Pitch 1.27mm, IPC Low Density)
pins on every part: 4 V+ (power), 11 V- (power)
part A pins: 1 OUT1 (out), 2 IN1- (in), 3 IN1+ (in)
part B pins: 5 IN2+ (in), 6 IN2- (in), 7 OUT2 (out)
part C pins: 8 OUT3 (out), 9 IN3- (in), 10 IN3+ (in)
part D pins: 12 IN4+ (in), 13 IN4- (in), 14 OUT4 (out)

## LPC660IMX
designator U?
Low Power CMOS Quad Operational Amplifier, 14-pin Narrow SOIC; PartNumber: LPC660IMX; Manufacturer: National Semiconductor; PackageTopMarking: NSUZXYTTE#*LPC660IM; PowerWise: N; CompType: Amplifiers; High-Reliability: Y; DatasheetVersion: Nov-2004; PackageVersion: revJ, Jan-1996; PackageReference: M14A; PackageDescription: Molded Package S.O., .150in Wide, 14 Lead; RoHS: N; PinCount: 14; Code_JEDEC: MS-012AB; Code_IPC: SOIC127P600-14; ComponentLink1Description: Manufacturer URL; ComponentLink1URL: http://www.national.com/; ComponentLink2Description: LPC660 Datasheet; ComponentLink2URL: http://www.national.com/ds/LP/LPC660.pdf; ComponentLink3Description: LPC660 Web Page; ComponentLink3URL: http://www.national.com/pf/LP/LPC660.html; ComponentLink4Description: M14A Package Page; ComponentLink4URL: http://www.national.com/packaging/folders/m14a.html
footprint M14A_N (SOIC, 14-Leads, Body 8.6x3.9mm, Pitch 1.27mm, IPC Medium Density)
footprint M14A_L (SOIC, 14-Leads, Body 8.6x3.9mm, Pitch 1.27mm, IPC High Density)
footprint M14A_M (SOIC, 14-Leads, Body 8.6x3.9mm, Pitch 1.27mm, IPC Low Density)
pins on every part: 4 V+ (power), 11 V- (power)
part A pins: 1 OUT1 (out), 2 IN1- (in), 3 IN1+ (in)
part B pins: 5 IN2+ (in), 6 IN2- (in), 7 OUT2 (out)
part C pins: 8 OUT3 (out), 9 IN3- (in), 10 IN3+ (in)
part D pins: 12 IN4+ (in), 13 IN4- (in), 14 OUT4 (out)

## LPC661IM
designator U?
Low Power CMOS Operational Amplifier, 8-pin Narrow SOIC; PartNumber: LPC661IM; Manufacturer: National Semiconductor; PackageTopMarking: NSZXTT*LPC66*1IM; PowerWise: N; CompType: Amplifiers; High-Reliability: Y; DatasheetVersion: Aug-2000; PackageVersion: revM, May-2009; PackageReference: M08A; PackageDescription: SOIC Narrow, 4.9 x 3.9 x 1.45mm, 8 Lead, 1.27mm Pitch; RoHS: N; PinCount: 8; Code_JEDEC: MS-012-AA; Code_IPC: SOIC127P600-8; ComponentLink1Description: Manufacturer URL; ComponentLink1URL: http://www.national.com/; ComponentLink2Description: LPC661 Datasheet; ComponentLink2URL: http://www.national.com/ds/LP/LPC661.pdf; ComponentLink3Description: LPC661 Web Page; ComponentLink3URL: http://www.national.com/pf/LP/LPC661.html; ComponentLink4Description: M08A Package Page; ComponentLink4URL: http://www.national.com/packaging/folders/m08a.html
footprint M08A_N (SOIC, 8-Leads, Body 4.9x3.9mm, Pitch 1.27mm, IPC Medium Density)
footprint M08A_L (SOIC, 8-Leads, Body 4.9x3.9mm, Pitch 1.27mm, IPC High Density)
footprint M08A_M (SOIC, 8-Leads, Body 4.9x3.9mm, Pitch 1.27mm, IPC Low Density)
pins: 1 NC, 2 IN- (in), 3 IN+ (in), 4 V- (power), 5 NC, 6 OUT (out), 7 V+ (power), 8 NC

## LPC661IMX
designator U?
Low Power CMOS Operational Amplifier, 8-pin Narrow SOIC; PartNumber: LPC661IMX; Manufacturer: National Semiconductor; PackageTopMarking: NSZXTT*LPC66*1IM; PowerWise: N; CompType: Amplifiers; High-Reliability: Y; DatasheetVersion: Aug-2000; PackageVersion: revM, May-2009; PackageReference: M08A; PackageDescription: SOIC Narrow, 4.9 x 3.9 x 1.45mm, 8 Lead, 1.27mm Pitch; RoHS: N; PinCount: 8; Code_JEDEC: MS-012-AA; Code_IPC: SOIC127P600-8; ComponentLink1Description: Manufacturer URL; ComponentLink1URL: http://www.national.com/; ComponentLink2Description: LPC661 Datasheet; ComponentLink2URL: http://www.national.com/ds/LP/LPC661.pdf; ComponentLink3Description: LPC661 Web Page; ComponentLink3URL: http://www.national.com/pf/LP/LPC661.html; ComponentLink4Description: M08A Package Page; ComponentLink4URL: http://www.national.com/packaging/folders/m08a.html
footprint M08A_N (SOIC, 8-Leads, Body 4.9x3.9mm, Pitch 1.27mm, IPC Medium Density)
footprint M08A_L (SOIC, 8-Leads, Body 4.9x3.9mm, Pitch 1.27mm, IPC High Density)
footprint M08A_M (SOIC, 8-Leads, Body 4.9x3.9mm, Pitch 1.27mm, IPC Low Density)
pins: 1 NC, 2 IN- (in), 3 IN+ (in), 4 V- (power), 5 NC, 6 OUT (out), 7 V+ (power), 8 NC

## LPC662AIM
designator U?
Low Power CMOS Dual Operational Amplifier, 8-pin Narrow SOIC; PartNumber: LPC662AIM; Manufacturer: National Semiconductor; PackageTopMarking: NSZXTT*LPC66*2AIM; PowerWise: N; CompType: Amplifiers; High-Reliability: Y; DatasheetVersion: Aug-2000; PackageVersion: revM, May-2009; PackageReference: M08A; PackageDescription: SOIC Narrow, 4.9 x 3.9 x 1.45mm, 8 Lead, 1.27mm Pitch; RoHS: N; PinCount: 8; Code_JEDEC: MS-012-AA; Code_IPC: SOIC127P600-8; ComponentLink1Description: Manufacturer URL; ComponentLink1URL: http://www.national.com/; ComponentLink2Description: LPC662 Datasheet; ComponentLink2URL: http://www.national.com/ds/LP/LPC662.pdf; ComponentLink3Description: LPC662 Web Page; ComponentLink3URL: http://www.national.com/pf/LP/LPC662.html; ComponentLink4Description: M08A Package Page; ComponentLink4URL: http://www.national.com/packaging/folders/m08a.html
footprint M08A_N (SOIC, 8-Leads, Body 4.9x3.9mm, Pitch 1.27mm, IPC Medium Density)
footprint M08A_L (SOIC, 8-Leads, Body 4.9x3.9mm, Pitch 1.27mm, IPC High Density)
footprint M08A_M (SOIC, 8-Leads, Body 4.9x3.9mm, Pitch 1.27mm, IPC Low Density)
pins on every part: 4 V- (power), 8 V+ (power)
part A pins: 1 OUTA (out), 2 INA- (in), 3 INA+ (in)
part B pins: 5 INB+ (in), 6 INB- (in), 7 OUTB (out)

## LPC662AIMX
designator U?
Low Power CMOS Dual Operational Amplifier, 8-pin Narrow SOIC; PartNumber: LPC662AIMX; Manufacturer: National Semiconductor; PackageTopMarking: NSZXTT*LPC66*2AIM; PowerWise: N; CompType: Amplifiers; High-Reliability: Y; DatasheetVersion: Aug-2000; PackageVersion: revM, May-2009; PackageReference: M08A; PackageDescription: SOIC Narrow, 4.9 x 3.9 x 1.45mm, 8 Lead, 1.27mm Pitch; RoHS: N; PinCount: 8; Code_JEDEC: MS-012-AA; Code_IPC: SOIC127P600-8; ComponentLink1Description: Manufacturer URL; ComponentLink1URL: http://www.national.com/; ComponentLink2Description: LPC662 Datasheet; ComponentLink2URL: http://www.national.com/ds/LP/LPC662.pdf; ComponentLink3Description: LPC662 Web Page; ComponentLink3URL: http://www.national.com/pf/LP/LPC662.html; ComponentLink4Description: M08A Package Page; ComponentLink4URL: http://www.national.com/packaging/folders/m08a.html
footprint M08A_N (SOIC, 8-Leads, Body 4.9x3.9mm, Pitch 1.27mm, IPC Medium Density)
footprint M08A_L (SOIC, 8-Leads, Body 4.9x3.9mm, Pitch 1.27mm, IPC High Density)
footprint M08A_M (SOIC, 8-Leads, Body 4.9x3.9mm, Pitch 1.27mm, IPC Low Density)
pins on every part: 4 V- (power), 8 V+ (power)
part A pins: 1 OUTA (out), 2 INA- (in), 3 INA+ (in)
part B pins: 5 INB+ (in), 6 INB- (in), 7 OUTB (out)

## LPC662IM
designator U?
Low Power CMOS Dual Operational Amplifier, 8-pin Narrow SOIC; PartNumber: LPC662IM; Manufacturer: National Semiconductor; PackageTopMarking: NSZXTT*LPC66*2IM; PowerWise: N; CompType: Amplifiers; High-Reliability: Y; DatasheetVersion: Aug-2000; PackageVersion: revM, May-2009; PackageReference: M08A; PackageDescription: SOIC Narrow, 4.9 x 3.9 x 1.45mm, 8 Lead, 1.27mm Pitch; RoHS: Y; PinCount: 8; Code_JEDEC: MS-012-AA; Code_IPC: SOIC127P600-8; ComponentLink1Description: Manufacturer URL; ComponentLink1URL: http://www.national.com/; ComponentLink2Description: LPC662 Datasheet; ComponentLink2URL: http://www.national.com/ds/LP/LPC662.pdf; ComponentLink3Description: LPC662 Web Page; ComponentLink3URL: http://www.national.com/pf/LP/LPC662.html; ComponentLink4Description: M08A Package Page; ComponentLink4URL: http://www.national.com/packaging/folders/m08a.html
footprint M08A_N (SOIC, 8-Leads, Body 4.9x3.9mm, Pitch 1.27mm, IPC Medium Density)
footprint M08A_L (SOIC, 8-Leads, Body 4.9x3.9mm, Pitch 1.27mm, IPC High Density)
footprint M08A_M (SOIC, 8-Leads, Body 4.9x3.9mm, Pitch 1.27mm, IPC Low Density)
pins on every part: 4 V- (power), 8 V+ (power)
part A pins: 1 OUTA (out), 2 INA- (in), 3 INA+ (in)
part B pins: 5 INB+ (in), 6 INB- (in), 7 OUTB (out)

## LPC662IM/NOPB
designator U?
Low Power CMOS Dual Operational Amplifier, 8-pin Narrow SOIC, Pb-Free; PartNumber: LPC662IM/NOPB; Manufacturer: National Semiconductor; PackageTopMarking: NSZXTT*LPC66*2IM; PowerWise: N; CompType: Amplifiers; High-Reliability: Y; DatasheetVersion: Aug-2000; PackageVersion: revM, May-2009; PackageReference: M08A; PackageDescription: SOIC Narrow, 4.9 x 3.9 x 1.45mm, 8 Lead, 1.27mm Pitch; RoHS: Y; PinCount: 8; Code_JEDEC: MS-012-AA; Code_IPC: SOIC127P600-8; ComponentLink1Description: Manufacturer URL; ComponentLink1URL: http://www.national.com/; ComponentLink2Description: LPC662 Datasheet; ComponentLink2URL: http://www.national.com/ds/LP/LPC662.pdf; ComponentLink3Description: LPC662 Web Page; ComponentLink3URL: http://www.national.com/pf/LP/LPC662.html; ComponentLink4Description: M08A Package Page; ComponentLink4URL: http://www.national.com/packaging/folders/m08a.html
footprint M08A_N (SOIC, 8-Leads, Body 4.9x3.9mm, Pitch 1.27mm, IPC Medium Density)
footprint M08A_L (SOIC, 8-Leads, Body 4.9x3.9mm, Pitch 1.27mm, IPC High Density)
footprint M08A_M (SOIC, 8-Leads, Body 4.9x3.9mm, Pitch 1.27mm, IPC Low Density)
pins on every part: 4 V- (power), 8 V+ (power)
part A pins: 1 OUTA (out), 2 INA- (in), 3 INA+ (in)
part B pins: 5 INB+ (in), 6 INB- (in), 7 OUTB (out)

## LPC662IMX
designator U?
Low Power CMOS Dual Operational Amplifier, 8-pin Narrow SOIC; PartNumber: LPC662IMX; Manufacturer: National Semiconductor; PackageTopMarking: NSZXTT*LPC66*2IM; PowerWise: N; CompType: Amplifiers; High-Reliability: Y; DatasheetVersion: Aug-2000; PackageVersion: revM, May-2009; PackageReference: M08A; PackageDescription: SOIC Narrow, 4.9 x 3.9 x 1.45mm, 8 Lead, 1.27mm Pitch; RoHS: N; PinCount: 8; Code_JEDEC: MS-012-AA; Code_IPC: SOIC127P600-8; ComponentLink1Description: Manufacturer URL; ComponentLink1URL: http://www.national.com/; ComponentLink2Description: LPC662 Datasheet; ComponentLink2URL: http://www.national.com/ds/LP/LPC662.pdf; ComponentLink3Description: LPC662 Web Page; ComponentLink3URL: http://www.national.com/pf/LP/LPC662.html; ComponentLink4Description: M08A Package Page; ComponentLink4URL: http://www.national.com/packaging/folders/m08a.html
footprint M08A_N (SOIC, 8-Leads, Body 4.9x3.9mm, Pitch 1.27mm, IPC Medium Density)
footprint M08A_L (SOIC, 8-Leads, Body 4.9x3.9mm, Pitch 1.27mm, IPC High Density)
footprint M08A_M (SOIC, 8-Leads, Body 4.9x3.9mm, Pitch 1.27mm, IPC Low Density)
pins on every part: 4 V- (power), 8 V+ (power)
part A pins: 1 OUTA (out), 2 INA- (in), 3 INA+ (in)
part B pins: 5 INB+ (in), 6 INB- (in), 7 OUTB (out)

## LPV321M5
designator U?
General Purpose, Low Voltage, Low Power, Rail-to-Rail Output Operational Amplifiers, 5-pin SOT-23; PartNumber: LPV321M5; Manufacturer: National Semiconductor; PackageTopMarking: A27A*XTT; PowerWise: Y; DatasheetVersion: Oct-2006; PackageVersion: revD, Aug-2008; PackageReference: MF05A; PackageDescription: Molded SOT-23, .115 x .063 x .040 in Body, 5 Lead, .0375 in Pitch; RoHS: N; PinCount: 5; CompType: Amplifiers; High-Reliability: Y; ComponentLink1Description: Manufacturer URL; ComponentLink1URL: http://www.national.com/; ComponentLink2Description: LPV321 Datasheet; ComponentLink2URL: http://www.national.com/ds/LP/LPV321.pdf; ComponentLink3Description: LPV321 Web Page; ComponentLink3URL: http://www.national.com/pf/LP/LPV321.html; ComponentLink4Description: MF05A Package Page; ComponentLink4URL: http://www.national.com/packaging/folders/mf05a.html
footprint MF05A_N (SOT23, 5-Leads, Body 2.9x1.6mm, Pitch 0.95mm, Lead Span 2.8mm, IPC Medium Density)
footprint MF05A_L (SOT23, 5-Leads, Body 2.9x1.6mm, Pitch 0.95mm, Lead Span 2.8mm, IPC High Density)
footprint MF05A_M (SOT23, 5-Leads, Body 2.9x1.6mm, Pitch 0.95mm, Lead Span 2.8mm, IPC Low Density)
pins: 1 IN+ (in), 2 V- (power), 3 IN- (in), 4 OUT (out), 5 V+ (power)

## LPV321M5/NOPB
designator U?
General Purpose, Low Voltage, Low Power, Rail-to-Rail Output Operational Amplifiers, 5-pin SOT-23, Pb-Free; PartNumber: LPV321M5/NOPB; Manufacturer: National Semiconductor; PackageTopMarking: A27A*XTT; PowerWise: Y; DatasheetVersion: Oct-2006; PackageVersion: revD, Aug-2008; PackageReference: MF05A; PackageDescription: Molded SOT-23, .115 x .063 x .040 in Body, 5 Lead, .0375 in Pitch; RoHS: Y; PinCount: 5; CompType: Amplifiers; High-Reliability: Y; ComponentLink1Description: Manufacturer URL; ComponentLink1URL: http://www.national.com/; ComponentLink2Description: LPV321 Datasheet; ComponentLink2URL: http://www.national.com/ds/LP/LPV321.pdf; ComponentLink3Description: LPV321 Web Page; ComponentLink3URL: http://www.national.com/pf/LP/LPV321.html; ComponentLink4Description: MF05A Package Page; ComponentLink4URL: http://www.national.com/packaging/folders/mf05a.html
footprint MF05A_N (SOT23, 5-Leads, Body 2.9x1.6mm, Pitch 0.95mm, Lead Span 2.8mm, IPC Medium Density)
footprint MF05A_L (SOT23, 5-Leads, Body 2.9x1.6mm, Pitch 0.95mm, Lead Span 2.8mm, IPC High Density)
footprint MF05A_M (SOT23, 5-Leads, Body 2.9x1.6mm, Pitch 0.95mm, Lead Span 2.8mm, IPC Low Density)
pins: 1 IN+ (in), 2 V- (power), 3 IN- (in), 4 OUT (out), 5 V+ (power)

## LPV321M5X
designator U?
General Purpose, Low Voltage, Low Power, Rail-to-Rail Output Operational Amplifiers, 5-pin SOT-23; PartNumber: LPV321M5X; Manufacturer: National Semiconductor; PackageTopMarking: A27A*XTT; PowerWise: Y; DatasheetVersion: Oct-2006; PackageVersion: revD, Aug-2008; PackageReference: MF05A; PackageDescription: Molded SOT-23, .115 x .063 x .040 in Body, 5 Lead, .0375 in Pitch; RoHS: N; PinCount: 5; CompType: Amplifiers; High-Reliability: Y; ComponentLink1Description: Manufacturer URL; ComponentLink1URL: http://www.national.com/; ComponentLink2Description: LPV321 Datasheet; ComponentLink2URL: http://www.national.com/ds/LP/LPV321.pdf; ComponentLink3Description: LPV321 Web Page; ComponentLink3URL: http://www.national.com/pf/LP/LPV321.html; ComponentLink4Description: MF05A Package Page; ComponentLink4URL: http://www.national.com/packaging/folders/mf05a.html
footprint MF05A_N (SOT23, 5-Leads, Body 2.9x1.6mm, Pitch 0.95mm, Lead Span 2.8mm, IPC Medium Density)
footprint MF05A_L (SOT23, 5-Leads, Body 2.9x1.6mm, Pitch 0.95mm, Lead Span 2.8mm, IPC High Density)
footprint MF05A_M (SOT23, 5-Leads, Body 2.9x1.6mm, Pitch 0.95mm, Lead Span 2.8mm, IPC Low Density)
pins: 1 IN+ (in), 2 V- (power), 3 IN- (in), 4 OUT (out), 5 V+ (power)

## LPV321M7
designator U?
General Purpose, Low Voltage, Low Power, Rail-to-Rail Output Operational Amplifiers, 5-pin SC-70; PartNumber: LPV321M7; Manufacturer: National Semiconductor; PackageTopMarking: A19*XTT; PowerWise: Y; DatasheetVersion: Oct-2006; PackageVersion: revD, Jun-2007; PackageReference: MAA05A; PackageDescription: Molded SC-70, 2 x 1.25 x .9mm, 5 Lead, 0.65mm Pitch; RoHS: N; PinCount: 5; CompType: Amplifiers; High-Reliability: Y; Code_JEITA: SC-88A; Code_JEDEC: MO-203-AA; Code_IPC: SOT353-5; ComponentLink1Description: Manufacturer URL; ComponentLink1URL: http://www.national.com/; ComponentLink2Description: LPV321 Datasheet; ComponentLink2URL: http://www.national.com/ds/LP/LPV321.pdf; ComponentLink3Description: LPV321 Web Page; ComponentLink3URL: http://www.national.com/pf/LP/LPV321.html; ComponentLink4Description: MAA05A Package Page; ComponentLink4URL: http://www.national.com/packaging/folders/maa05a.html
footprint MAA05A_N (SOT353, 5-Leads, Body 2x1.3mm, Pitch 0.65mm, Lead Span 2.1mm, IPC Medium Density)
footprint MAA05A_L (SOT353, 5-Leads, Body 2x1.3mm, Pitch 0.65mm, Lead Span 2.1mm, IPC High Density)
footprint MAA05A_M (SOT353, 5-Leads, Body 2x1.3mm, Pitch 0.65mm, Lead Span 2.1mm, IPC Low Density)
pins: 1 IN+ (in), 2 V- (power), 3 IN- (in), 4 OUT (out), 5 V+ (power)

## LPV321M7/NOPB
designator U?
General Purpose, Low Voltage, Low Power, Rail-to-Rail Output Operational Amplifiers, 5-pin SC-70, Pb-Free; PartNumber: LPV321M7/NOPB; Manufacturer: National Semiconductor; PackageTopMarking: A19*XTT; PowerWise: Y; DatasheetVersion: Oct-2006; PackageVersion: revD, Jun-2007; PackageReference: MAA05A; PackageDescription: Molded SC-70, 2 x 1.25 x .9mm, 5 Lead, 0.65mm Pitch; RoHS: Y; PinCount: 5; CompType: Amplifiers; High-Reliability: Y; Code_JEITA: SC-88A; Code_JEDEC: MO-203-AA; Code_IPC: SOT353-5; ComponentLink1Description: Manufacturer URL; ComponentLink1URL: http://www.national.com/; ComponentLink2Description: LPV321 Datasheet; ComponentLink2URL: http://www.national.com/ds/LP/LPV321.pdf; ComponentLink3Description: LPV321 Web Page; ComponentLink3URL: http://www.national.com/pf/LP/LPV321.html; ComponentLink4Description: MAA05A Package Page; ComponentLink4URL: http://www.national.com/packaging/folders/maa05a.html
footprint MAA05A_N (SOT353, 5-Leads, Body 2x1.3mm, Pitch 0.65mm, Lead Span 2.1mm, IPC Medium Density)
footprint MAA05A_L (SOT353, 5-Leads, Body 2x1.3mm, Pitch 0.65mm, Lead Span 2.1mm, IPC High Density)
footprint MAA05A_M (SOT353, 5-Leads, Body 2x1.3mm, Pitch 0.65mm, Lead Span 2.1mm, IPC Low Density)
pins: 1 IN+ (in), 2 V- (power), 3 IN- (in), 4 OUT (out), 5 V+ (power)

## LPV321M7X
designator U?
General Purpose, Low Voltage, Low Power, Rail-to-Rail Output Operational Amplifiers, 5-pin SC-70; PartNumber: LPV321M7X; Manufacturer: National Semiconductor; PackageTopMarking: A19*XTT; PowerWise: Y; DatasheetVersion: Oct-2006; PackageVersion: revD, Jun-2007; PackageReference: MAA05A; PackageDescription: Molded SC-70, 2 x 1.25 x .9mm, 5 Lead, 0.65mm Pitch; RoHS: N; PinCount: 5; CompType: Amplifiers; High-Reliability: Y; Code_JEITA: SC-88A; Code_JEDEC: MO-203-AA; Code_IPC: SOT353-5; ComponentLink1Description: Manufacturer URL; ComponentLink1URL: http://www.national.com/; ComponentLink2Description: LPV321 Datasheet; ComponentLink2URL: http://www.national.com/ds/LP/LPV321.pdf; ComponentLink3Description: LPV321 Web Page; ComponentLink3URL: http://www.national.com/pf/LP/LPV321.html; ComponentLink4Description: MAA05A Package Page; ComponentLink4URL: http://www.national.com/packaging/folders/maa05a.html
footprint MAA05A_N (SOT353, 5-Leads, Body 2x1.3mm, Pitch 0.65mm, Lead Span 2.1mm, IPC Medium Density)
footprint MAA05A_L (SOT353, 5-Leads, Body 2x1.3mm, Pitch 0.65mm, Lead Span 2.1mm, IPC High Density)
footprint MAA05A_M (SOT353, 5-Leads, Body 2x1.3mm, Pitch 0.65mm, Lead Span 2.1mm, IPC Low Density)
pins: 1 IN+ (in), 2 V- (power), 3 IN- (in), 4 OUT (out), 5 V+ (power)

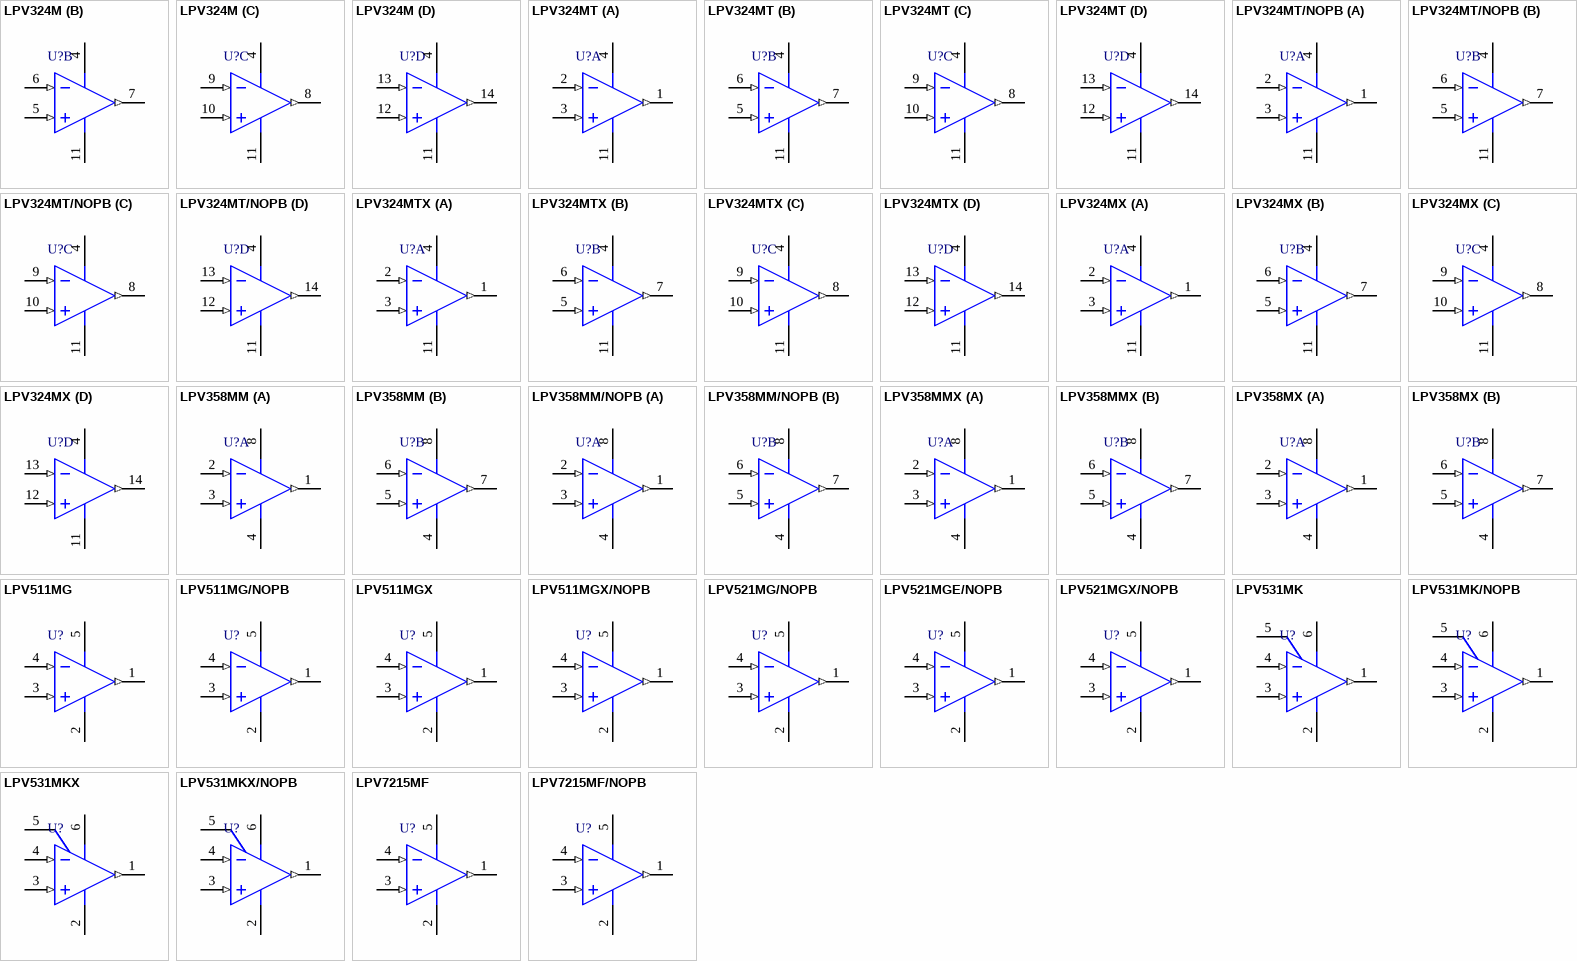
[diagram p82: symbols LPV324M to LPV7215MF/NOPB]